# EAGLE library part EM202 (library -redpic-ic-components)
Ethernet To Serial Module Tibbo EM202
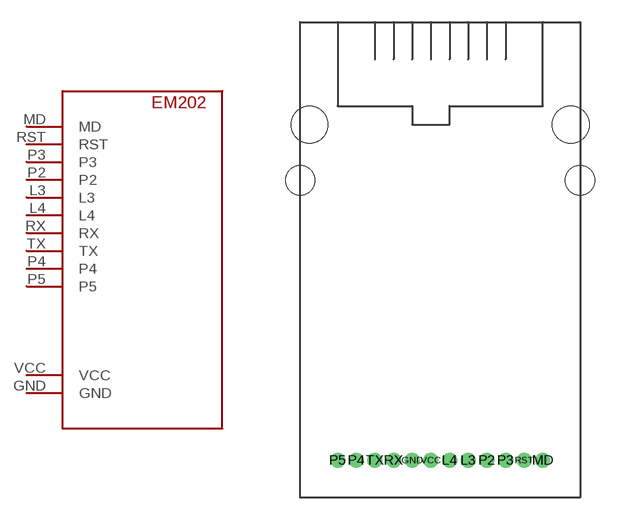
[diagram p4: symbol with the pads of EM202; footprint EM202]

Designator prefix -

## EM202  [EM202]
GND  GND
L3  L3
L4  L4
MD  MD
P2  P2
P3  P3
P4  P4
P5  P5
RST  RST
RX  RX
TX  TX
VCC  VCC

## Footprint EM202 (pad centres in mm)
drill 0.5 pad 1.016 round: GND 6.35,1.27; L3 10.16,1.27; L4 8.89,1.27; MD 15.24,1.27; P2 11.43,1.27; P3 12.7,1.27; P4 2.54,1.27; P5 1.27,1.27; RST 13.97,1.27; RX 5.08,1.27; TX 3.81,1.27; VCC 7.62,1.27
hole 2.5 at -0.635,24.13
hole 2.5 at 17.145,24.13
hole 2 at -1.27,20.32
hole 2 at 17.78,20.32